# Altium schematic symbol library MySchLib.SchLib: 66 symbols
Pins are listed as number, name and electrical type; pins without a type are passive.

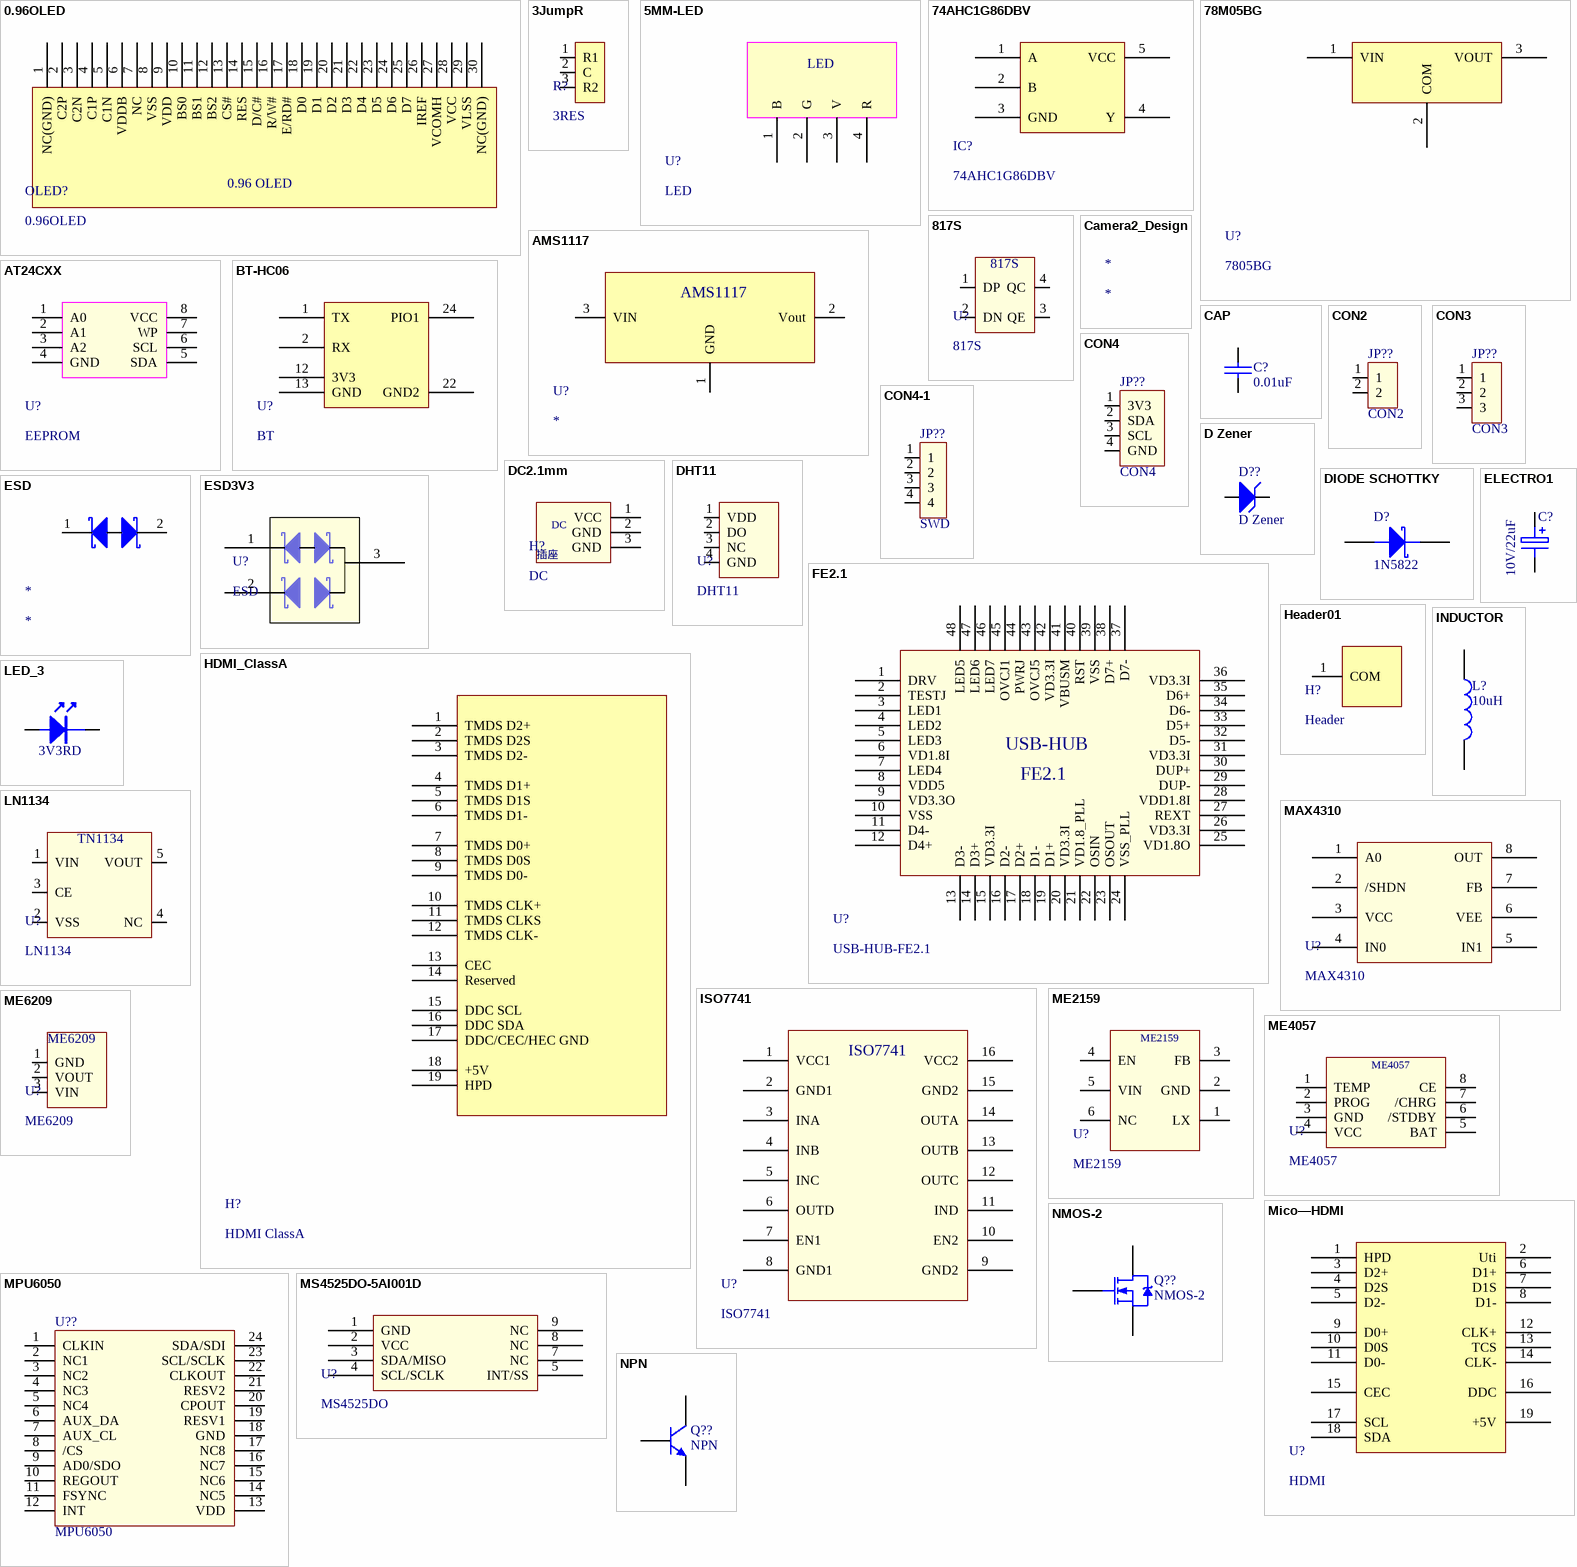
[diagram p0: symbols 0.96OLED to NPN]

## 0.96OLED
designator OLED?
pins: 1 NC(GND), 2 C2P, 3 C2N, 4 C1P, 5 C1N, 6 VDDB, 7 NC, 8 VSS, 9 VDD, 10 BS0, 11 BS1, 12 BS2, 13 CS#, 14 RES, 15 D/C#, 16 R/W#, 17 E/RD#, 18 D0, 19 D1, 20 D2, 21 D3, 22 D4, 23 D5, 24 D6, 25 D7, 26 IREF, 27 VCOMH, 28 VCC, 29 VLSS, 30 NC(GND)
text: 0.96 OLED

## 3JumpR
designator R?, comment 3RES
pins: 1 R1, 2 C, 3 R2

## 5MM-LED
designator U?, comment LED
footprint 5MM-LED
pins: 1 B, 2 G, 3 V, 4 R

## 74AHC1G86DBV
designator IC?
pins: 1 A "/SHDN", 2 B "/SHDN", 3 GND "/SHDN", 4 Y "/SHDN", 5 VCC "/SHDN"

## 78M05BG
designator U?, comment 7805BG
pins: 1 VIN "/SHDN", 2 COM "/SHDN", 3 VOUT "/SHDN"

## 817S
designator U?
光耦芯片
pins: 1 DP, 2 DN, 3 QE, 4 QC

## AMS1117
designator U?
降压稳压芯片
footprint SOT223 (SOT223 /SC-73)
pins: 1 GND "/SHDN", 2 Vout "/SHDN", 3 VIN "/SHDN"

## AT24CXX
designator U?, comment EEPROM
pins: 1 A0, 2 A1, 3 A2, 4 GND, 5 SDA, 6 SCL, 7 WP, 8 VCC

## BT-HC06
designator U?, comment BT
pins: 1 TX "/SHDN", 2 RX "/SHDN", 12 3V3 "/SHDN", 13 GND "/SHDN", 22 GND2 "/SHDN", 24 PIO1 "/SHDN"

## Camera2_Design
designator *

## CAP
designator C?, comment 0.01uF
Capacitor
footprint RES_0603_B
footprint C0603_B
footprint C0603B
pins: 1, 2

## CON2
designator JP??
pins: 1, 2

## CON3
designator JP??
pins: 1, 2, 3

## CON4
designator JP??
pins: 1 3V3, 2 SDA, 3 SCL, 4 GND

## CON4-1
designator JP??, comment SWD
pins: 1, 2, 3, 4

## D Zener
designator D??
Zener Diode; Published: 8-Jun-2000; LatestRevisionDate: 17-Jul-2002; LatestRevisionNote: Re-released for DXP Platform.; PackageReference: DIODE-0.7; Publisher: Altium Limited; PackageDescription: Diode, Thru-Hole; 2 Leads; 0.7 in Pin Spacing
footprint DIODE-0.7 (Diode, Thru-Hole; 2 Leads; 0.7 in Pin Spacing)
simulation model ZENER (Diode)
signal-integrity model D Zener
pins: 1 A, 2 K

## DC2.1mm
designator H?, comment DC
电池电源插座
pins: 1 VCC, 2 GND, 3 GND
text: 插座

## DHT11
designator U?
pins: 1 VDD, 2 DO, 3 NC, 4 GND

## DIODE SCHOTTKY
designator D?, comment 1N5822
Schottky Diode
footprint IN5822
footprint DO-1810
pins: A, K

## ELECTRO1
designator C?, comment 10V/22uF
Electrolytic Capacitor
footprint C1210
pins: 1, 2

## ESD
designator *
pins: 1 N, 2

## ESD3V3
designator U?, comment ESD
footprint LC-SOT-23(SOT-23-3)
pins: 1 N, 2 N, 3 N

## FE2.1
designator U?, comment USB-HUB-FE2.1
pins: 1 DRV, 2 TESTJ, 3 LED1, 4 LED2, 5 LED3, 6 VD1.8I, 7 LED4, 8 VDD5, 9 VD3.3O, 10 VSS, 11 D4-, 12 D4+, 13 D3-, 14 D3+, 15 VD3.3I, 16 D2-, 17 D2+, 18 D1-, 19 D1+, 20 VD3.3I, 21 VD1.8_PLL, 22 OSIN, 23 OSOUT, 24 VSS_PLL, 25 VD1.8O, 26 VD3.3I, 27 REXT, 28 VDD1.8I, 29 DUP-, 30 DUP+, 31 VD3.3I, 32 D5-, 33 D5+, 34 D6-, 35 D6+, 36 VD3.3I, 37 D7-, 38 D7+, 39 VSS, 40 RST, 41 VBUSM, 42 VD3.3I, 43 OVCJ5, 44 PWRJ, 45 OVCJ1, 46 LED7, 47 LED6, 48 LED5
text: USB-HUB

## HDMI_ClassA
designator H?, comment HDMI ClassA
pins: 1 TMDS D2+, 2 TMDS D2S, 3 TMDS D2-, 4 TMDS D1+, 5 TMDS D1S, 6 TMDS D1-, 7 TMDS D0+, 8 TMDS D0S, 9 TMDS D0-, 10 TMDS CLK+, 11 TMDS CLKS, 12 TMDS CLK-, 13 CEC, 14 Reserved, 15 DDC SCL, 16 DDC SDA, 17 DDC/CEC/HEC GND, 18 +5V, 19 HPD

## Header01
designator H?, comment Header
pins: 1 COM "/SHDN"

## INDUCTOR
designator L?, comment 10uH
footprint L-10X10X4
pins: 1, 2

## ISO7741
designator U?
(TI 3/1 Digital isolator SSOP-8)
pins: 1 VCC1, 2 GND1, 3 INA, 4 INB, 5 INC, 6 OUTD, 7 EN1, 8 GND1, 9 GND2, 10 EN2, 11 IND, 12 OUTC, 13 OUTB, 14 OUTA, 15 GND2, 16 VCC2

## LED_3
designator 1?, comment 3V3RD
footprint LED0805R
pins: 1, 2

## LN1134
designator U?
3.3V LDO
pins: 1 VIN, 2 VSS, 3 CE, 4 NC, 5 VOUT
text: TN1134

## MAX4310
designator U?
footprint SOIC-8
pins: 1 A0, 2 /SHDN, 3 VCC "/SHDN", 4 IN0 "/SHDN", 5 IN1 "/SHDN", 6 VEE "/SHDN", 7 FB "/SHDN", 8 OUT "/SHDN"

## ME2159
designator U?
单节锂电池升压芯片，最大12V
footprint SOT-23-6
pins: 1 LX, 2 GND, 3 FB, 4 EN, 5 VIN, 6 NC

## ME4057
designator U?
单节锂电池充电芯片
footprint LC-SOP-8_EP_150mil (嘉立创商城库)
pins: 1 TEMP, 2 PROG, 3 GND, 4 VCC, 5 BAT, 6 /STDBY, 7 /CHRG, 8 CE

## ME6209
designator U?
LDO芯片   VIN-16V OUT-3.3V  200ma
pins: 1 GND, 2 VOUT, 3 VIN

## Mico—HDMI
designator U?, comment HDMI
pins: 1 HPD "/SHDN", 2 Uti "/SHDN", 3 D2+ "/SHDN", 4 D2S "/SHDN", 5 D2- "/SHDN", 6 D1+ "/SHDN", 7 D1S "/SHDN", 8 D1- "/SHDN", 9 D0+ "/SHDN", 10 D0S "/SHDN", 11 D0- "/SHDN", 12 CLK+ "/SHDN", 13 TCS "/SHDN", 14 CLK- "/SHDN", 15 CEC "/SHDN", 16 DDC "/SHDN", 17 SCL "/SHDN", 18 SDA "/SHDN", 19 +5V "/SHDN"

## MPU6050
designator U??
pins: 1 CLKIN, 2 NC1, 3 NC2, 4 NC3, 5 NC4, 6 AUX_DA, 7 AUX_CL, 8 /CS, 9 AD0/SDO, 10 REGOUT, 11 FSYNC, 12 INT, 13 VDD, 14 NC5, 15 NC6, 16 NC7, 17 NC8, 18 GND, 19 RESV1, 20 CPOUT, 21 RESV2, 22 CLKOUT, 23 SCL/SCLK, 24 SDA/SDI

## MS4525DO-5AI001D
designator U?, comment MS4525DO
pins: 1 GND, 2 VCC, 3 SDA/MISO, 4 SCL/SCLK, 5 INT/SS, 7 NC, 8 NC, 9 NC

## NMOS-2
designator Q??
N-Channel Power MOSFET; Note: Pin 2 is electrically connected to pin 4.; Published: 8-Jun-2000; LatestRevisionDate: 17-Jul-2002; LatestRevisionNote: Re-released for DXP Platform.; DatasheetVersion: PD-9.814; PackageVersion: Feb-1997; PackageReference: TO-220AB; Publisher: Altium Limited; PackageDescription: TO, Thru-Hole, Vertical, Heatsink Mounted; 3 In-Line Leads; Pitch 2.54 mm; ComponentLink1Description: Manufacturer Link; ComponentLink1URL: http://www.irf.com/
footprint TO-220AB (TO, Thru-Hole, Vertical, Heatsink Mounted; 3 In-Line Leads; Pitch 2.54 mm)
simulation model IRF1010 (Spice Subcircuit)
pins: 1 G, 2 D, 3 S

## NPN
designator Q??
NPN Bipolar Transistor; Published: 8-Jun-2000; LatestRevisionDate: 17-Jul-2002; LatestRevisionNote: Re-released for DXP Platform.; PackageReference: TO-226-AA; Publisher: Altium Limited; PackageDescription: TO, Flat Index; 3 In-Line, Axial Leads; Body Dia. 4.8mm; Leads 0.55 x 0.51 mm (max); Code_JEDEC: TO-226-AA
footprint TO-226-AA (TO, Flat Index; 3 In-Line, Axial Leads; Body Dia. 4.8mm; Leads 0.55 x 0.51 mm (max))
simulation model NPN
signal-integrity model NPN
pins: 1 B, 2 C, 3 E

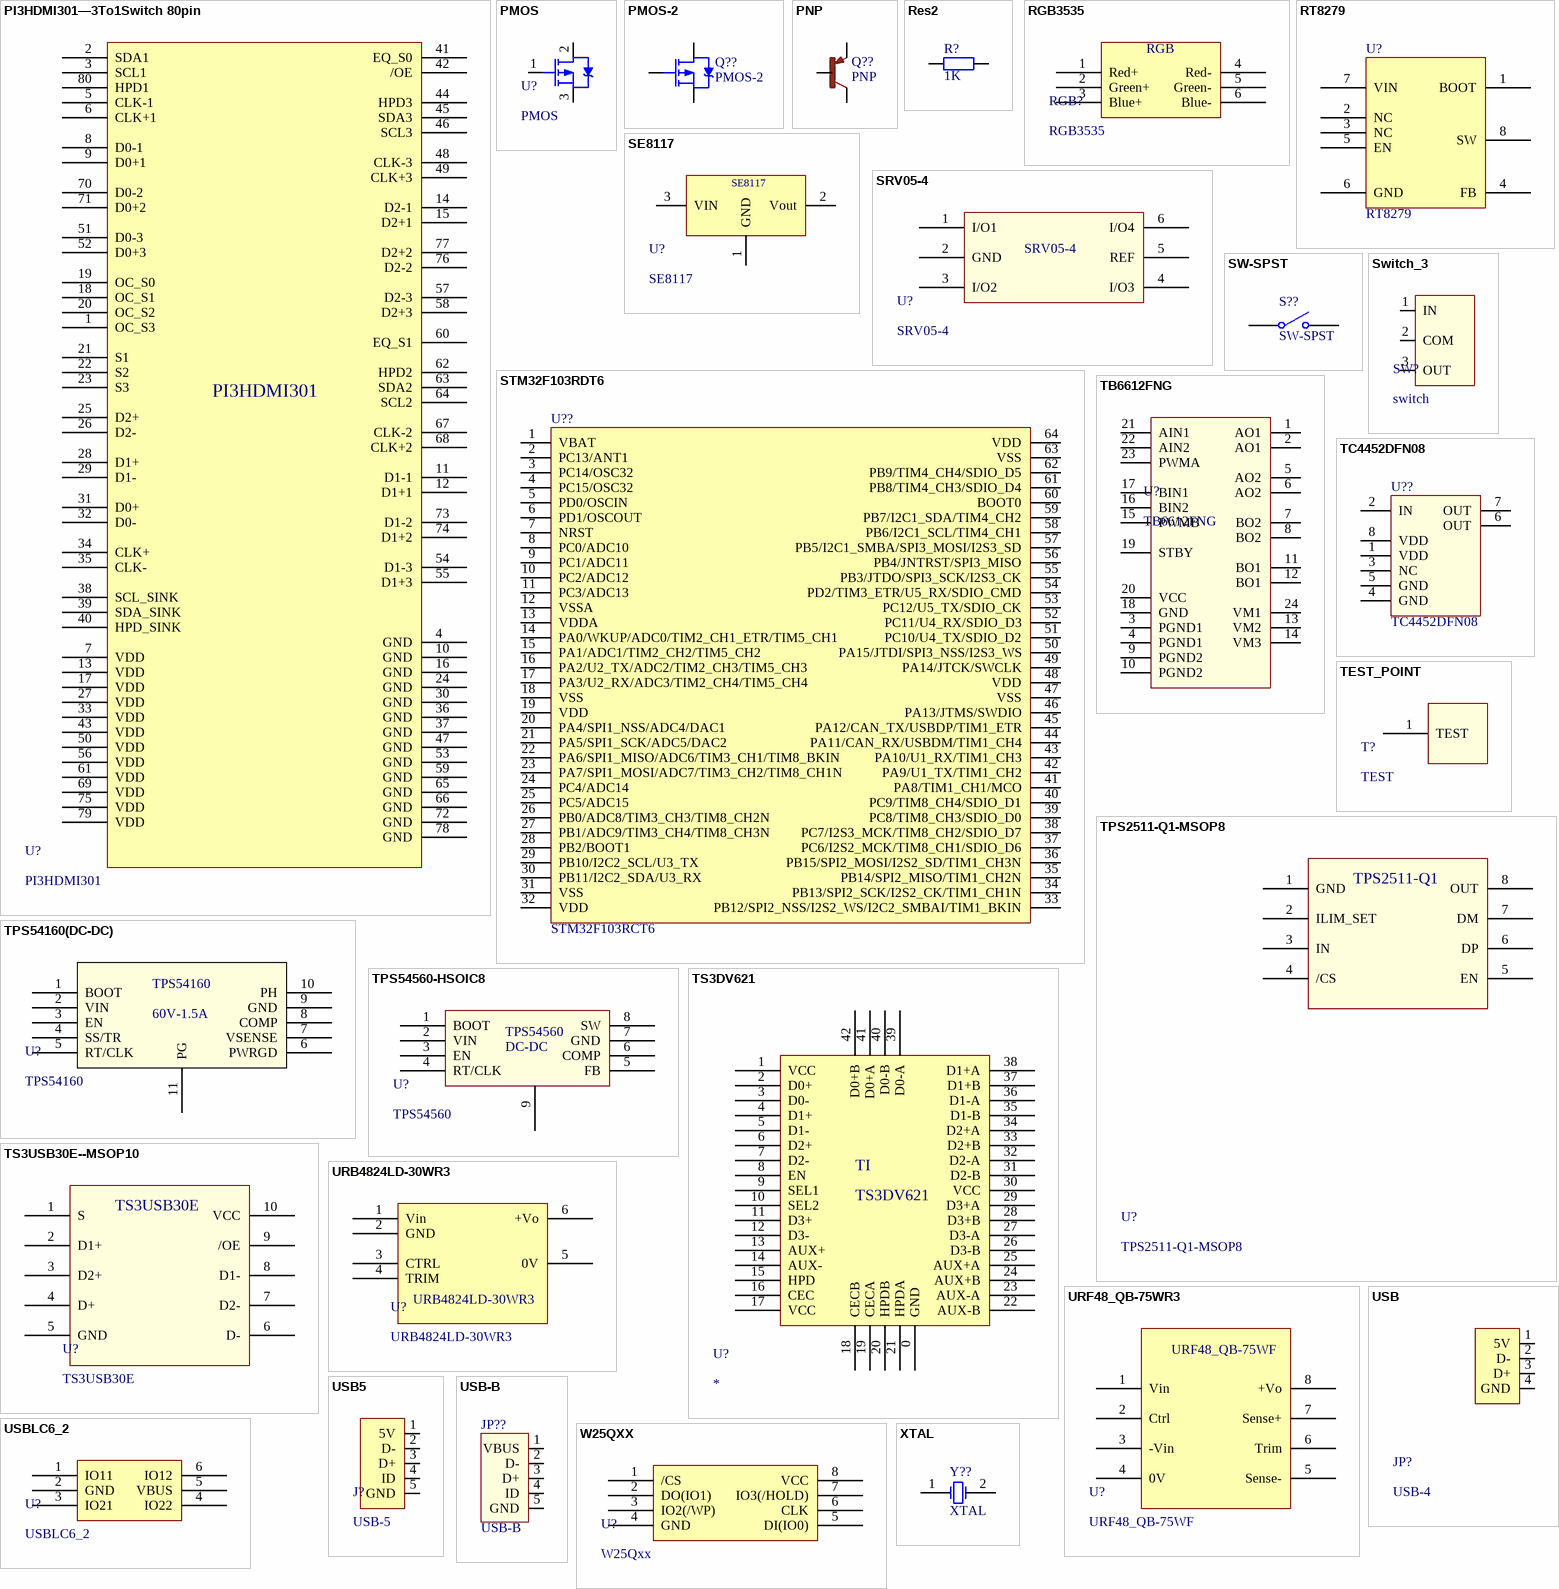
[diagram p1: symbols PI3HDMI301—3To1Switch 80pin to XTAL]

## PI3HDMI301—3To1Switch 80pin
designator U?, comment PI3HDMI301
footprint LQFP_80
pins: 1 OC_S3 "/SHDN", 2 SDA1 "/SHDN", 3 SCL1 "/SHDN", 4 GND "/SHDN", 5 CLK-1 "/SHDN", 6 CLK+1 "/SHDN", 7 VDD "/SHDN", 8 D0-1 "/SHDN", 9 D0+1 "/SHDN", 10 GND "/SHDN", 11 D1-1 "/SHDN", 12 D1+1 "/SHDN", 13 VDD "/SHDN", 14 D2-1 "/SHDN", 15 D2+1 "/SHDN", 16 GND "/SHDN", 17 VDD "/SHDN", 18 OC_S1 "/SHDN", 19 OC_S0 "/SHDN", 20 OC_S2 "/SHDN", 21 S1 "/SHDN", 22 S2 "/SHDN", 23 S3 "/SHDN", 24 GND "/SHDN", 25 D2+ "/SHDN", 26 D2- "/SHDN", 27 VDD "/SHDN", 28 D1+ "/SHDN", 29 D1- "/SHDN", 30 GND "/SHDN", 31 D0+ "/SHDN", 32 D0- "/SHDN", 33 VDD "/SHDN", 34 CLK+ "/SHDN", 35 CLK- "/SHDN", 36 GND "/SHDN", 37 GND "/SHDN", 38 SCL_SINK "/SHDN", 39 SDA_SINK "/SHDN", 40 HPD_SINK "/SHDN", 41 EQ_S0 "/SHDN", 42 /OE "/SHDN", 43 VDD "/SHDN", 44 HPD3 "/SHDN", 45 SDA3 "/SHDN", 46 SCL3 "/SHDN", 47 GND "/SHDN", 48 CLK-3 "/SHDN", 49 CLK+3 "/SHDN", 50 VDD "/SHDN", 51 D0-3 "/SHDN", 52 D0+3 "/SHDN", 53 GND "/SHDN", 54 D1-3 "/SHDN", 55 D1+3 "/SHDN", 56 VDD "/SHDN", 57 D2-3 "/SHDN", 58 D2+3 "/SHDN", 59 GND "/SHDN", 60 EQ_S1 "/SHDN", 61 VDD "/SHDN", 62 HPD2 "/SHDN", 63 SDA2 "/SHDN", 64 SCL2 "/SHDN", 65 GND "/SHDN", 66 GND "/SHDN", 67 CLK-2 "/SHDN", 68 CLK+2 "/SHDN", 69 VDD "/SHDN", 70 D0-2 "/SHDN", 71 D0+2 "/SHDN", 72 GND "/SHDN", 73 D1-2 "/SHDN", 74 D1+2 "/SHDN", 75 VDD "/SHDN", 76 D2-2 "/SHDN", 77 D2+2 "/SHDN", 78 GND "/SHDN", 79 VDD "/SHDN", 80 HPD1 "/SHDN"

## PMOS
designator U?
单个PMOS
pins: 1 G, 2 D, 3 S

## PMOS-2
designator Q??
P-Channel Power MOSFET; Note: Pin 4 not drawn and electrically connected to Pin 2.; Published: 8-Jun-2000; LatestRevisionDate: 17-Jul-2002; LatestRevisionNote: Re-released for DXP Platform.; DatasheetVersion: PD-9.390D; PackageVersion: Feb-1997; PackageReference: TO-220AB; Publisher: Altium Limited; PackageDescription: TO, Thru-Hole, Vertical, Heatsink Mounted; 3 In-Line Leads; Pitch 2.54 mm; ComponentLink1Description: Manufacturer Link; ComponentLink1URL: http://www.irf.com/
footprint TO-220AB (TO, Thru-Hole, Vertical, Heatsink Mounted; 3 In-Line Leads; Pitch 2.54 mm)
simulation model IRF9510 (Spice Subcircuit)
pins: 1 G, 2 D, 3 S

## PNP
designator Q??
pins: B, C, E

## Res2
designator R?, comment 1K
Resistor; Published: 8-Jun-2000; LatestRevisionDate: 17-Jul-2002; LatestRevisionNote: Re-released for DXP Platform.; PackageReference: AXIAL-0.4; Publisher: Altium Limited; PackageDescription: Axial Device, Thru-Hole; 2 Leads; 0.4 in Pin Spacing; Value: 1K
footprint AXIAL-0.4 (Axial Device, Thru-Hole; 2 Leads; 0.4 in Pin Spacing)
simulation model RESISTOR (Resistor)
signal-integrity model Res
footprint RES_0603_B
footprint R0603B
pins: 1, 2

## RGB3535
designator RGB?
pins: 1 Red+, 2 Green+, 3 Blue+, 4 Red-, 5 Green-, 6 Blue-
text: RGB

## RT8279
designator U?
footprint tps5430
pins: 1 BOOT, 2 NC, 3 NC, 4 FB, 5 EN, 6 GND, 7 VIN, 8 SW

## SE8117
designator U?
降压稳压芯片，该系列最大1A输出
footprint LC-SOT-223
pins: 1 GND "/SHDN", 2 Vout "/SHDN", 3 VIN "/SHDN"

## SRV05-4
designator U?
footprint SOT23-6
pins: 1 I/O1, 2 GND, 3 I/O2, 4 I/O3, 5 REF, 6 I/O4

## STM32F103RDT6
designator U??, comment STM32F103RCT6
footprint LQFP64
pins: 1 VBAT, 2 PC13/ANT1, 3 PC14/OSC32, 4 PC15/OSC32, 5 PD0/OSCIN, 6 PD1/OSCOUT, 7 NRST, 8 PC0/ADC10, 9 PC1/ADC11, 10 PC2/ADC12, 11 PC3/ADC13, 12 VSSA, 13 VDDA, 14 PA0/WKUP/ADC0/TIM2_CH1_ETR/TIM5_CH1, 15 PA1/ADC1/TIM2_CH2/TIM5_CH2, 16 PA2/U2_TX/ADC2/TIM2_CH3/TIM5_CH3, 17 PA3/U2_RX/ADC3/TIM2_CH4/TIM5_CH4, 18 VSS, 19 VDD, 20 PA4/SPI1_NSS/ADC4/DAC1, 21 PA5/SPI1_SCK/ADC5/DAC2, 22 PA6/SPI1_MISO/ADC6/TIM3_CH1/TIM8_BKIN, 23 PA7/SPI1_MOSI/ADC7/TIM3_CH2/TIM8_CH1N, 24 PC4/ADC14, 25 PC5/ADC15, 26 PB0/ADC8/TIM3_CH3/TIM8_CH2N, 27 PB1/ADC9/TIM3_CH4/TIM8_CH3N, 28 PB2/BOOT1, 29 PB10/I2C2_SCL/U3_TX, 30 PB11/I2C2_SDA/U3_RX, 31 VSS, 32 VDD, 33 PB12/SPI2_NSS/I2S2_WS/I2C2_SMBAI/TIM1_BKIN, 34 PB13/SPI2_SCK/I2S2_CK/TIM1_CH1N, 35 PB14/SPI2_MISO/TIM1_CH2N, 36 PB15/SPI2_MOSI/I2S2_SD/TIM1_CH3N, 37 PC6/I2S2_MCK/TIM8_CH1/SDIO_D6, 38 PC7/I2S3_MCK/TIM8_CH2/SDIO_D7, 39 PC8/TIM8_CH3/SDIO_D0, 40 PC9/TIM8_CH4/SDIO_D1, 41 PA8/TIM1_CH1/MCO, 42 PA9/U1_TX/TIM1_CH2, 43 PA10/U1_RX/TIM1_CH3, 44 PA11/CAN_RX/USBDM/TIM1_CH4, 45 PA12/CAN_TX/USBDP/TIM1_ETR, 46 PA13/JTMS/SWDIO, 47 VSS, 48 VDD, 49 PA14/JTCK/SWCLK, 50 PA15/JTDI/SPI3_NSS/I2S3_WS, 51 PC10/U4_TX/SDIO_D2, 52 PC11/U4_RX/SDIO_D3, 53 PC12/U5_TX/SDIO_CK, 54 PD2/TIM3_ETR/U5_RX/SDIO_CMD, 55 PB3/JTDO/SPI3_SCK/I2S3_CK, 56 PB4/JNTRST/SPI3_MISO, 57 PB5/I2C1_SMBA/SPI3_MOSI/I2S3_SD, 58 PB6/I2C1_SCL/TIM4_CH1, 59 PB7/I2C1_SDA/TIM4_CH2, 60 BOOT0, 61 PB8/TIM4_CH3/SDIO_D4, 62 PB9/TIM4_CH4/SDIO_D5, 63 VSS, 64 VDD

## SW-SPST
designator S??
Single-Pole, Single-Throw Switch; Published: 24-Mar-1999; LatestRevisionDate: 17-Jul-2002; LatestRevisionNote: Re-released for DXP Platform.; PackageReference: SPST-2; Publisher: Altium Limited; PackageDescription: Switch; 2 Leads
footprint SPST-2 (Switch; 2 Leads)
pins: 1 COMMON, 2 NO

## Switch_3
designator SW?, comment switch
pins: 1 IN, 2 COM, 3 OUT

## TB6612FNG
designator U?
pins: 1 AO1, 2 AO1, 3 PGND1, 4 PGND1, 5 AO2, 6 AO2, 7 BO2, 8 BO2, 9 PGND2, 10 PGND2, 11 BO1, 12 BO1, 13 VM2, 14 VM3, 15 PWMB, 16 BIN2, 17 BIN1, 18 GND, 19 STBY, 20 VCC, 21 AIN1, 22 AIN2, 23 PWMA, 24 VM1

## TC4452DFN08
designator U??
pins: 1 VDD, 2 IN (power), 3 NC, 4 GND (power), 5 GND (power), 6 OUT, 7 OUT, 8 VDD

## TEST_POINT
designator T?, comment TEST
footprint TEST_POINT
pins: 1 TEST

## TPS2511-Q1-MSOP8
designator U?
USB POWER CHARGE
pins: 1 GND, 2 ILIM_SET, 3 IN, 4 /CS, 5 EN, 6 DP, 7 DM, 8 OUT
text: TPS2511-Q1

## TPS54160(DC-DC)
designator U?, comment TPS54160
DC-DC(5.5V-60V   MAX OUT 1A)
pins: 1 BOOT, 2 VIN, 3 EN, 4 SS/TR, 5 RT/CLK, 6 PWRGD, 7 VSENSE, 8 COMP, 9 GND, 10 PH, 11 PG
text: 60V-1.5A

## TPS54560-HSOIC8
designator U?, comment TPS54560
DC-DC(5.5V-60V   MAX OUT 5A)
footprint LC-SOIC-8_150mil
pins: 1 BOOT, 2 VIN, 3 EN, 4 RT/CLK, 5 FB, 6 COMP, 7 GND, 8 SW, 9 PADGND, GND PADGND hidden
text: DC-DC

## TS3DV621
designator U?
HDMI select switch
pins: 0 GND, 1 VCC "/SHDN", 2 D0+ "/SHDN", 3 D0- "/SHDN", 4 D1+ "/SHDN", 5 D1- "/SHDN", 6 D2+ "/SHDN", 7 D2- "/SHDN", 8 EN "/SHDN", 9 SEL1 "/SHDN", 10 SEL2 "/SHDN", 11 D3+ "/SHDN", 12 D3- "/SHDN", 13 AUX+ "/SHDN", 14 AUX- "/SHDN", 15 HPD "/SHDN", 16 CEC "/SHDN", 17 VCC "/SHDN", 18 CECB "/SHDN", 19 CECA "/SHDN", 20 HPDB "/SHDN", 21 HPDA "/SHDN", 22 AUX-B "/SHDN", 23 AUX-A "/SHDN", 24 AUX+B "/SHDN", 25 AUX+A "/SHDN", 26 D3-B "/SHDN", 27 D3-A "/SHDN", 28 D3+B "/SHDN", 29 D3+A "/SHDN", 30 VCC "/SHDN", 31 D2-B "/SHDN", 32 D2-A "/SHDN", 33 D2+B "/SHDN", 34 D2+A "/SHDN", 35 D1-B "/SHDN", 36 D1-A "/SHDN", 37 D1+B "/SHDN", 38 D1+A "/SHDN", 39 D0-A "/SHDN", 40 D0-B "/SHDN", 41 D0+A "/SHDN", 42 D0+B "/SHDN"
text: TI

## TS3USB30E--MSOP10
designator U?, comment TS3USB30E
2 CHANNEL USB SELECT SWITCH
pins: 1 S, 2 D1+, 3 D2+, 4 D+, 5 GND, 6 D-, 7 D2-, 8 D1-, 9 /OE, 10 VCC

## URB4824LD-30WR3
designator U?
pins: 1 Vin, 2 GND, 3 CTRL, 4 TRIM, 5 0V, 6 +Vo

## URF48_QB-75WR3
designator U?, comment URF48_QB-75WF
pins: 1 Vin, 2 Ctrl, 3 -Vin, 4 0V, 5 Sense-, 6 Trim, 7 Sense+, 8 +Vo

## USB
designator JP?, comment USB-4
pins: 1 5V, 2 D-, 3 D+, 4 GND

## USB5
designator J?, comment USB-5
pins: 1 5V, 2 D-, 3 D+, 4 ID, 5 GND

## USB-B
designator JP??
pins: 1 VBUS, 2 D-, 3 D+, 4 ID, 5 GND

## USBLC6_2
designator U?
pins: 1 IO11, 2 GND, 3 IO21, 4 IO22, 5 VBUS, 6 IO12

## W25QXX
designator U?, comment W25Qxx
pins: 1 /CS, 2 DO(IO1), 3 IO2(/WP), 4 GND, 5 DI(IO0), 6 CLK, 7 IO3(/HOLD), 8 VCC

## XTAL
designator Y??
Crystal Oscillator; Published: 8-Jun-2000; LatestRevisionDate: 17-Jul-2002; LatestRevisionNote: Re-released for DXP Platform.; PackageReference: R38; Publisher: Altium Limited; PackageDescription: Crystal, Thru-Hole; 2 Leads; Body 3.1 x 8.2 mm (Dia.xH)
footprint R38 (Crystal, Thru-Hole; 2 Leads; Body 3.1 x 8.2 mm (Dia.xH))
simulation model XTAL (Spice Subcircuit)
pins: 1 OSC1, 2 OSC2